# Altium footprint library Connectors.PcbLib: 67 footprints (part 1 of 5)
Each footprint in its own frame and in the unit in brackets; x right, y up, seen from the top. Pads: shape width x height; smd on the part's side, far side on the other; paste and mask are expansions set on the pad; w line width, h text height; cw(c..) or ccw(c..) is an arc to the next point about the centre after c.
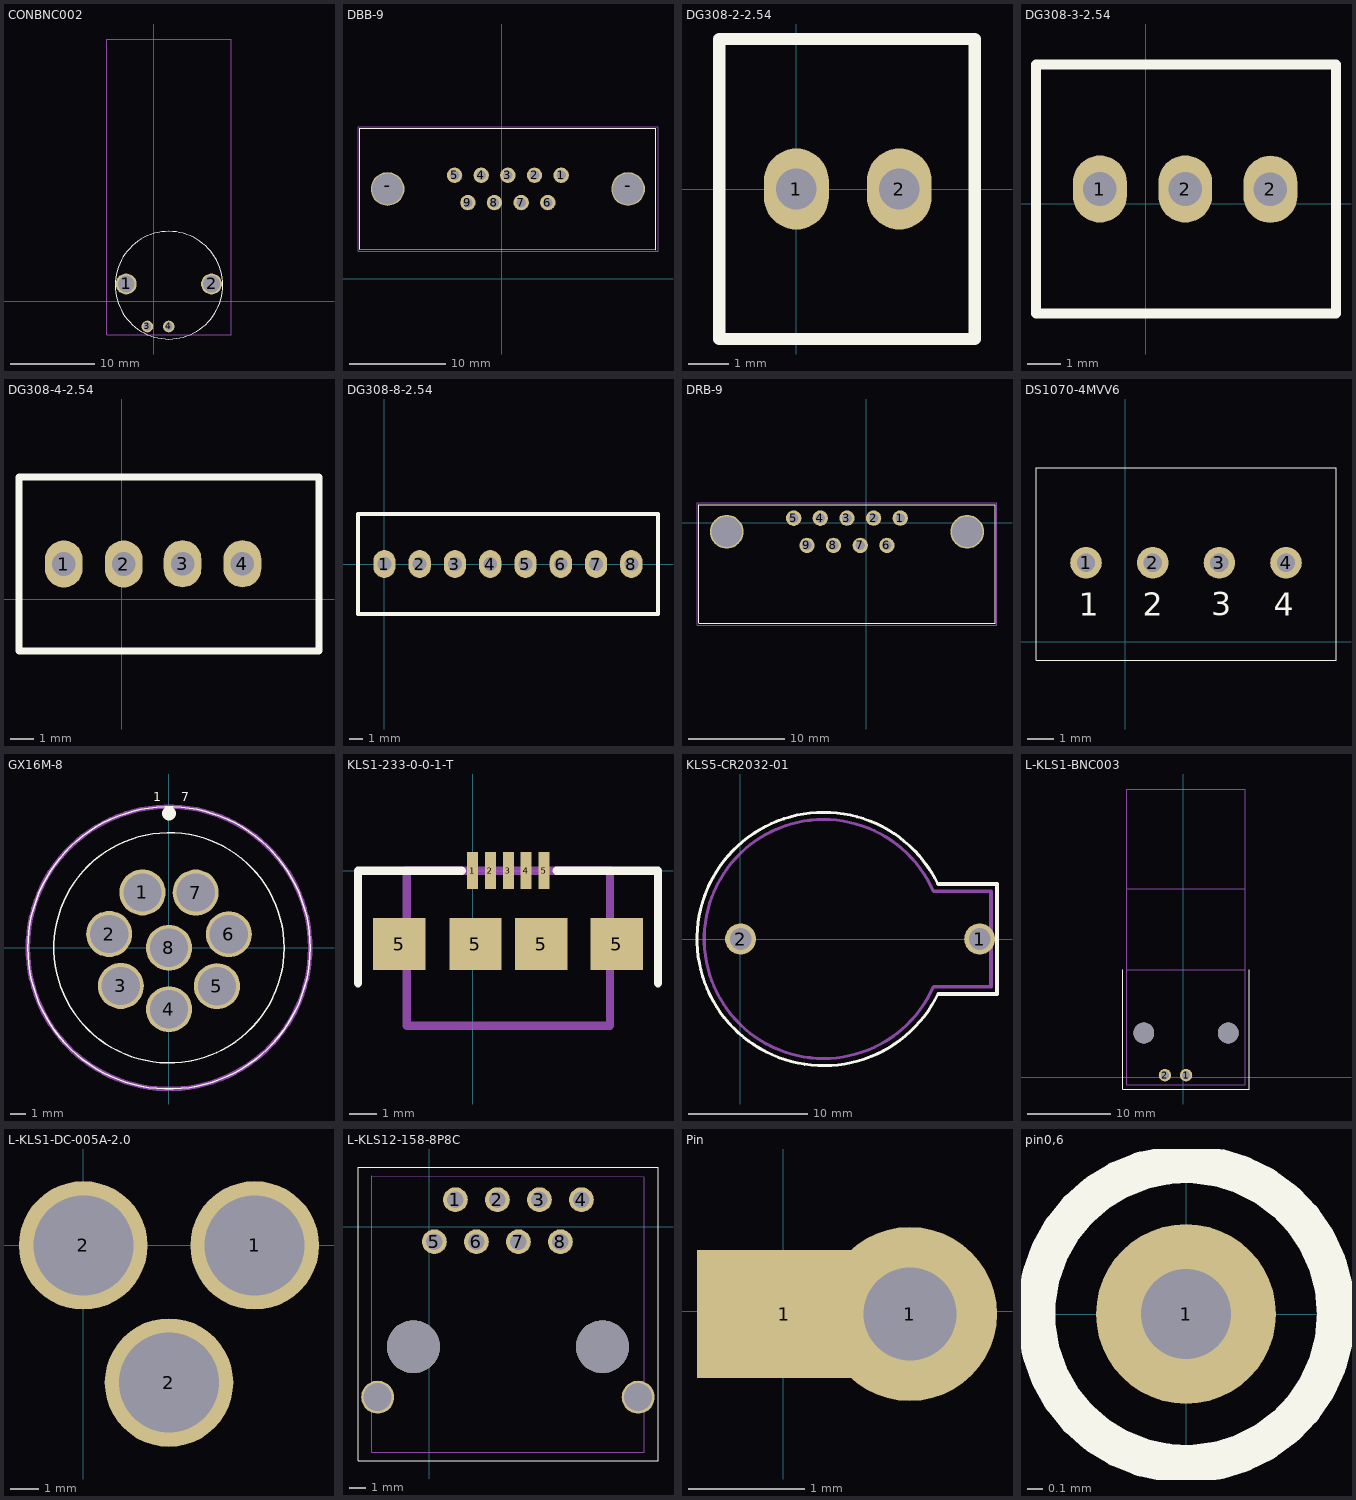
[diagram p0: the footprints below, top view; thin cyan lines are the x and y axes]

## CONBNC002 [mm]
pads (4):
  round 2.5 hole 2: 1(-3.3,2.04) 2(6.86,2.04)
  round 1.4 hole 0.9: 3(-0.77,-3.02) 4(1.77,-3.02)
Top Overlay:
  circle w0.1: c1.79,1.89 r6.4
Mechanical 15:
  lines w0.01: -5.6,-4 -5.6,31.2 9.2,31.2 9.2,-4 1.8,-4 -5.6,-4

## DBB-9 [mm] "Разъем под D-SUB на 9 пинов прямой"
pads (11):
  round 1.6 hole 1: 1(6.161,10.772) 2(3.391,10.772) 3(0.621,10.772) 4(-2.15,10.77) 5(-4.92,10.77) 6(4.776,7.932) 7(2.006,7.932) 8(-0.78,7.93) 9(-3.535,7.93)
  round 3.5 hole 3.2: -(-11.88,9.35) -(13.12,9.35)
Top Overlay:
  lines w0.1: -14.77,3.07 16.02,3.049 16.02,15.64 -14.77,15.64 -14.77,3.07
Mechanical 15:
  lines w0.1: -14.96,2.85 -14.96,15.84 16.23,15.84 16.23,2.85 -14.96,2.85

## DG308-2-2.54 [mm]
pads (2):
  oval 1.6x2 hole 1: 1(0,0) 2(2.54,0)
Top Overlay:
  lines w0.3: -1.9,-3.7 -1.9,3.7 4.4,3.7 4.4,-3.7 -1.9,-3.7
3D body: height 8.5, standoff 0, extent -1.5,-3.3 4,3.3

## DG308-3-2.54 [mm]
pads (3):
  oval 1.6x2 hole 1: 1(-1.36,0.44) 2(1.18,0.44) 2(3.71,0.43)
Top Overlay:
  lines w0.3: -3.26,-3.26 -3.26,4.14 5.66,4.14 5.66,-3.26 -3.26,-3.26
3D body: height 8.5, standoff 0, extent -2.86,-2.86 5.26,3.74

## DG308-4-2.54 [mm]
pads (4):
  oval 1.6x2 hole 1: 1(-2.45,1.5) 2(0.09,1.5) 3(2.59,1.51) 4(5.13,1.51)
Top Overlay:
  lines w0.3: 1.66,-2.2 8.38,-2.2 8.38,5.2 1.81,5.2 ; 1.95,-2.2 -4.35,-2.2 -4.35,5.2 1.95,5.2
3D body: height 8.5, standoff 0, extent -3.95,-1.8 7.98,4.8

## DG308-8-2.54 [mm]
pads (8):
  oval 1.6x2 hole 1: 1(0,0) 2(2.54,0) 3(5.08,0) 4(7.62,0) 5(10.16,0) 6(12.7,0) 7(15.24,0) 8(17.78,0)
Top Overlay:
  lines w0.3: -1.9,-3.6 -1.9,3.6 19.7,3.6 19.7,-3.6 -1.9,-3.6
3D body: height 8.5, standoff 0, extent -1.5,-3.2 19.3,3.2

## DRB-9 [mm] "Разъем под D-SUB на 9 пинов угловой"
pads (11):
  round 1.6 hole 1: 1(3.541,0.492) 2(0.771,0.492) 3(-1.999,0.492) 4(-4.77,0.49) 5(-7.54,0.49) 6(2.156,-2.348) 7(-0.614,-2.348) 8(-3.4,-2.35) 9(-6.155,-2.35)
  round 3.5 hole 3.2: ""(-14.5,-0.93) ""(10.5,-0.93)
Top Overlay:
  lines w0.1: -17.39,-10.44 -17.39,1.88 ; -17.39,1.882 13.4,1.882 ; -17.38,-10.441 13.4,-10.462 ; 13.4,-10.45 13.4,1.88
Mechanical 15:
  lines w0.1: -17.59,-10.65 13.6,-10.65 13.6,2.09 -17.59,2.09 -17.59,-10.65

## DS1070-4MVV6 [mm]
pads (4):
  round 1.2 hole 0.7: 1(-1.5,3) 2(1.04,3) 3(3.57,3) 4(6.1,3)
Top Overlay:
  lines w0.01: -3.4,-0.7 8,-0.7 8,3.98 8,6.6 -3.4,6.6 -3.4,-0.7
  text "4" at 5.64,0.7 h1.5
  text "3" at 3.26,0.717 h1.5
  text "2" at 0.649,0.7 h1.5
  text "1" at -1.78,0.7 h1.5

## GX16M-8 [mm]
pads (8):
  round 3 hole 2.5 mask+0.102: 1(-1.728,3.607) 2(-3.897,0.9) 3(-3.135,-2.485) 4(0,-4) 5(3.126,-2.496) 6(3.901,0.886) 7(1.741,3.601) 8(0,0)
Top Overlay:
  circle w0.1: c0,0 r9.2
  circle w0.1: c0,0 r7.5
  circle w0.5: c0,8.75 r0.2
  text "1     7" at -1.026,9.349 h1
Mechanical 15:
  circle w0.3: c0,0 r9.2

## KLS1-233-0-0-1-T [mm]
pads (9):
  rect 0.4x1.35 smd: 1(0,0) 2(0.65,0) 3(1.3,0) 4(1.95,0) 5(2.6,0)
  rect 1.9x1.9 smd: 5(-2.675,-2.675) 5(0.1,-2.675) 5(2.5,-2.675) 5(5.25,-2.675)
Top Overlay:
  lines w0.3: -4.175,-4.1 -4.175,0 -0.4,0 ; 3.05,0 6.75,0 6.75,-4.1
Mechanical 15:
  lines w0.3: -2.4,-5.65 5,-5.65 5,0 -2.4,0 -2.4,-5.65
3D body: height 3, standoff 0, extent -2.425,-5.65 5,0

## KLS5-CR2032-01 [mm]
pads (2):
  round 2.6 hole 1.8: 1(20.05,0) 2(0.05,0)
Top Overlay:
  lines w0.254: 16.542,4.62 ccw(c7,0) 16.579,-4.543
  lines w0.3: 16.6,-4.6 21.5,-4.6 21.5,4.6 16.6,4.6
Mechanical 15:
  lines w0.254: 16.138,-4.061 cw(c7,0) 16.138,4.061
  lines w0.3: 16.2,-4 21,-4 21,4 16.2,4
3D body: height 7.4, standoff 0, extent -3.87,-11.17 18.13,10.83
3D body: height 7.4, standoff 0.35, extent 16.13,-3.93 21.07,3.99

## L-KLS1-BNC003 [mm]
pads (4):
  round 1.5 hole 1: 1(0.34,0.25) 2(-2.2,0.25)
  round 2.5 hole 2.5: ""(-4.74,5.33) ""(5.42,5.33)
Top Overlay:
  lines w0.05: -7.29,12.93 -7.29,-1.41 7.96,-1.41 7.96,12.93
Mechanical 15:
  lines w0.05: -6.79,12.92 -6.79,34.72 7.47,34.72 7.47,12.92 ; -6.79,22.72 7.45,22.72 ; -6.79,-0.908 7.47,-0.915 7.47,12.93 -6.79,12.93 -6.79,-0.908

## L-KLS1-DC-005A-2.0 [mm]
pads (3):
  round 4.5 hole 3.5: 1(6,0) 2(0,0) 2(3,-4.8)

## L-KLS12-158-8P8C [mm]
pads (12):
  round 1.5 hole 1: 1(1.57,1.62) 2(4.11,1.62) 3(6.65,1.62) 4(9.19,1.62) 5(0.3,-0.92) 6(2.84,-0.92) 7(5.38,-0.92) 8(7.92,-0.92)
  round 2 hole 1.7: ""(-3.13,-10.32) ""(12.62,-10.32)
  round 3.2 hole 3.2: ""(-0.97,-7.27) ""(10.46,-7.27)
Top Overlay:
  lines w0.05: -4.32,-14.15 13.82,-14.15 13.82,3.57 -4.32,3.57 -4.32,-14.15
Mechanical 15:
  lines w0.05: -3.5,-13.65 -3.5,3.065 12.99,3.016 12.99,-13.65 -3.5,-13.65

## Pin [mm]
pads (2):
  rect 1.5x1.1 all layers, no hole mask+0.102: 1(0.01,-0.025)
  round 1.5 hole 0.8 mask+0.102: 1(1.09,-0.025)

## pin0,6 [mm]
pads (1):
  round 1.2 hole 0.6: 1(0,0)
Top Overlay:
  circle w0.254: c0,0 r1